# EAGLE library part FH12-08S-1S (library mathrax)
1mm Pitch Connectors For FPC/FFC Source: Data sheet <http://www.hirose.co.jp/cataloge_hp/e58605370.pdf>
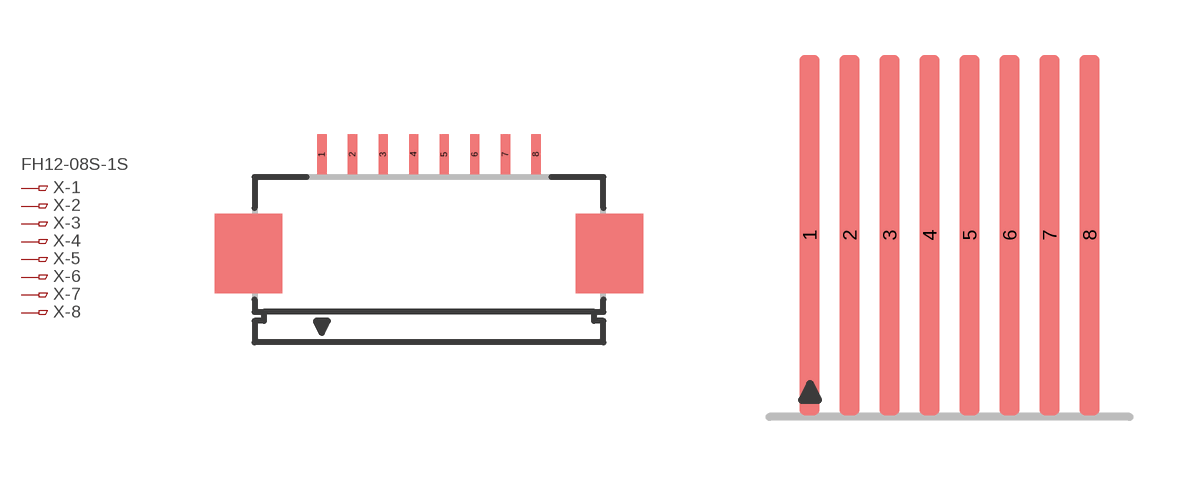
[diagram p5: symbol with the pads of FH12-08S-1SH; footprints FH12-08S-1SH, FH12-08S-CABLE]

Designator prefix X; gates -1=PINV -2=PIN -3=PIN -4=PIN -5=PIN -6=PIN -7=PIN -8=PIN

## FH12-08S-1SH (OC_FARNELL: unknown; OC_NEWARK: unknown)  [FH12-08S-1SH]
1  -1:1  pas
2  -2:1  pas
3  -3:1  pas
4  -4:1  pas
5  -5:1  pas
6  -6:1  pas
7  -7:1  pas
8  -8:1  pas

## FH12-08S-1S  [FH12-08S-CABLE]
Pads as for FH12-08S-1SH

## FH12-08S-1SFPC  [FH12-08S-FPC]
Pads as for FH12-08S-1SH

## Footprint FH12-08S-1SH (pad centres in mm)
smd 0.3 x 1.3: 1 -3.5,3.25; 2 -2.5,3.25; 3 -1.5,3.25; 4 -0.5,3.25; 5 0.5,3.25; 6 1.5,3.25; 7 2.5,3.25; 8 3.5,3.25

## Footprint FH12-08S-CABLE (pad centres in mm)
smd 0.5 x 9: 1 -3.5,1.75; 2 -2.5,1.75; 3 -1.5,1.75; 4 -0.5,1.75; 5 0.5,1.75; 6 1.5,1.75; 7 2.5,1.75; 8 3.5,1.75

## Footprint FH12-08S-FPC (pad centres in mm)
smd 0.5 x 1.5: 1 -3.5,3.25; 2 -2.5,3.25; 3 -1.5,3.25; 4 -0.5,3.25; 5 0.5,3.25; 6 1.5,3.25; 7 2.5,3.25; 8 3.5,3.25